# Altium schematic symbol library Amplifier_Operational.SchLib: 326 symbols (part 2 of 4)
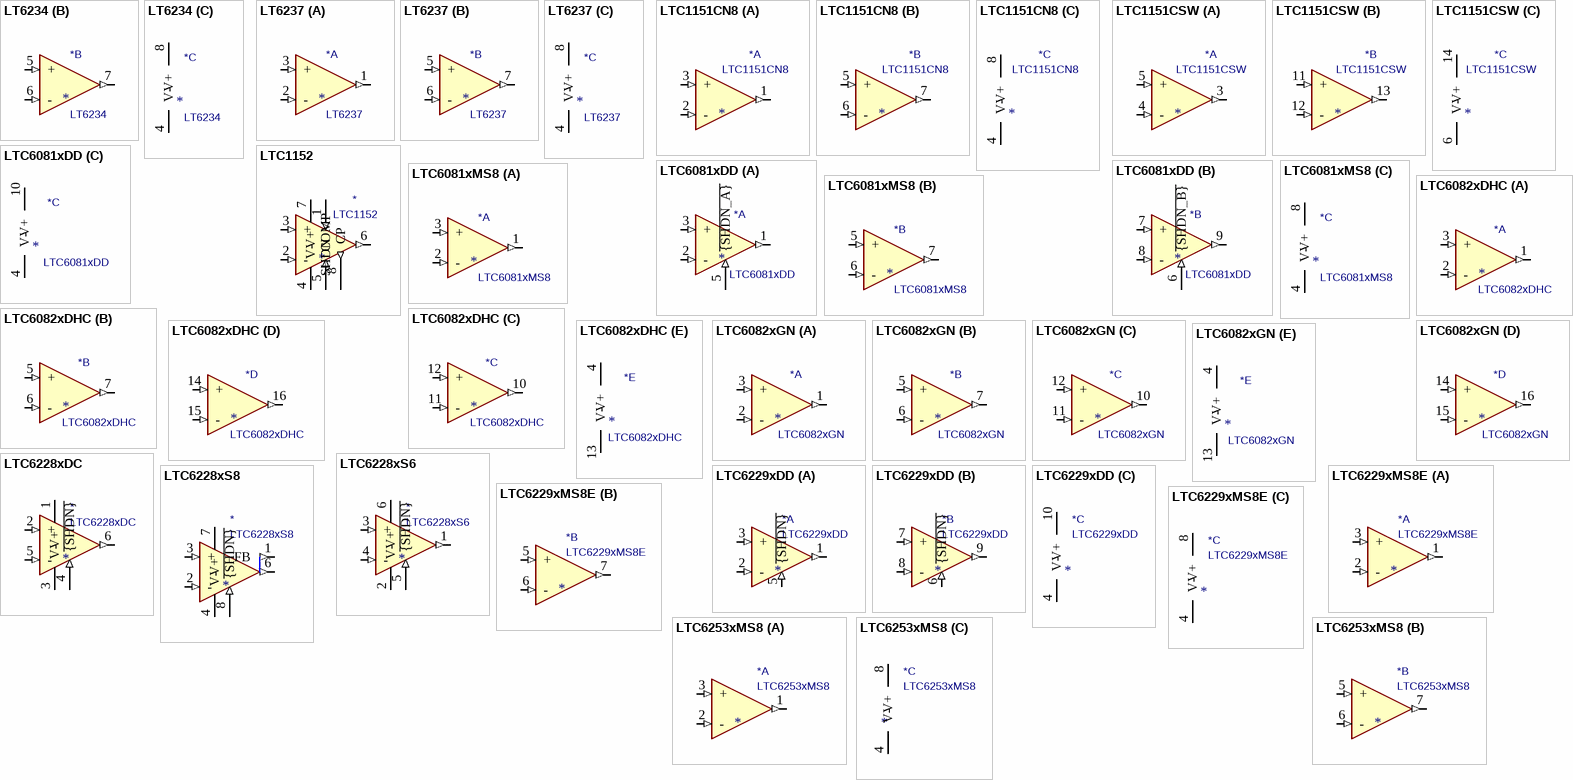
[diagram p19: symbols LT6234 to LTC6253xMS8]

## LTC6082xDHC
designator *  value LTC6082xDHC
ki_keywords: quad opamp; ki_description: Precision Quad CMOS Rail-to-Rail Input/Output Amplifiers, DFN-16; ki_fp_filters: DFN*3x5mm*P0.5mm*; Footprint: Package_DFN_QFN:DFN-16-1EP_3x5mm_P0.5mm_EP1.66x4.4mm; Supplier: https://www.analog.com/media/en/technical-documentation/data-sheets/60812fd.pdf
footprint DFN-16-1EP_3x5mm_P0.5mm_EP1.66x4.4mm
part A pins: 1 (out), 2 - (in), 3 + (in), 8 NC (in) hidden, 9 NC (in) hidden
part B pins: 5 + (in), 6 - (in), 7 (out)
part C pins: 10 (out), 11 - (in), 12 + (in)
part D pins: 14 + (in), 15 - (in), 16 (out)
part E pins: 4 V+ (power), 13 V- (power), 17 V- hidden

## LTC6082xGN
designator *  value LTC6082xGN
ki_keywords: quad opamp; ki_description: Precision Quad CMOS Rail-to-Rail Input/Output Amplifiers, SSOP-16; ki_fp_filters: SSOP*3.9x4.9mm*P0.635mm* SOIC*3.9x9.9mm*P1.27mm* QSOP*3.9x4.9mm*P0.635mm*; Supplier: https://www.analog.com/media/en/technical-documentation/data-sheets/60812fd.pdf
part A pins: 1 (out), 2 - (in), 3 + (in), 8 NC (in) hidden, 9 NC (in) hidden
part B pins: 5 + (in), 6 - (in), 7 (out)
part C pins: 10 (out), 11 - (in), 12 + (in)
part D pins: 14 + (in), 15 - (in), 16 (out)
part E pins: 4 V+ (power), 13 V- (power)

## LTC6228xDC
designator *  value LTC6228xDC
ki_keywords: single opamp; ki_description: Low Distortion Rail-to-Rail Output Op Amp with Shutdown, DFN-6; ki_fp_filters: DFN*1EP*2x2mm*P0.5mm*; Footprint: Package_DFN_QFN:DFN-6-1EP_2x2mm_P0.5mm_EP0.6x1.37mm; Supplier: https://www.analog.com/media/en/technical-documentation/data-sheets/LTC6228-6229.pdf
footprint DFN-6-1EP_2x2mm_P0.5mm_EP0.6x1.37mm
pins: 1 V+ (power), 2 + (in), 3 V- (power), 4 ~{{SHDN}} (in), 5 - (in), 6 (out), 7 V- hidden

## LTC6228xS6
designator *  value LTC6228xS6
ki_keywords: single opamp; ki_description: Low Distortion Rail-to-Rail Output Op Amp with Shutdown, TSOT-23-6; ki_fp_filters: TSOT?23*; Footprint: Package_TO_SOT_SMD:TSOT-23-6; Supplier: https://www.analog.com/media/en/technical-documentation/data-sheets/LTC6228-6229.pdf
footprint TSOT-23-6
pins: 1 (out), 2 V- (power), 3 + (in), 4 - (in), 5 ~{{SHDN}} (in), 6 V+ (power)

## LTC6228xS8
designator *  value LTC6228xS8
ki_keywords: single opamp; ki_description: Low Distortion Rail-to-Rail Output Op Amp with Shutdown, SO-8; ki_fp_filters: SO*3.9x4.9mm*P1.27mm*; Footprint: Package_SO:SO-8_3.9x4.9mm_P1.27mm; Supplier: https://www.analog.com/media/en/technical-documentation/data-sheets/LTC6228-6229.pdf
footprint SO-8_3.9x4.9mm_P1.27mm
pins: 1 FB (out), 2 - (in), 3 + (in), 4 V- (power), 5 V- hidden, 6 (out), 7 V+ (power), 8 ~{{SHDN}} (in)

## LTC6229xDD
designator *  value LTC6229xDD
ki_keywords: dual opamp; ki_description: Low Distortion Rail-to-Rail Output Op Amps with Shutdown, DFN-10; ki_fp_filters: DFN*1EP*3x3mm*P0.5mm*; Footprint: Package_DFN_QFN:DFN-10-1EP_3x3mm_P0.5mm_EP1.65x2.38mm; Supplier: https://www.analog.com/media/en/technical-documentation/data-sheets/LTC6228-6229.pdf
footprint DFN-10-1EP_3x3mm_P0.5mm_EP1.65x2.38mm
part A pins: 1 (out), 2 - (in), 3 + (in), 5 ~{{SHDN}} (in)
part B pins: 6 ~{{SHDN}} (in), 7 + (in), 8 - (in), 9 (out)
part C pins: 4 V- (power), 10 V+ (power), 11 V- hidden

## LTC6229xMS8E
designator *  value LTC6229xMS8E
ki_keywords: dual opamp; ki_description: Low Distortion Rail-to-Rail Output Op Amps with Shutdown, MSOP-8; ki_fp_filters: MSOP*1EP*3x3mm*P0.65mm*; Footprint: Package_SO:MSOP-8-1EP_3x3mm_P0.65mm_EP1.68x1.88mm; Supplier: https://www.analog.com/media/en/technical-documentation/data-sheets/LTC6228-6229.pdf
footprint MSOP-8-1EP_3x3mm_P0.65mm_EP1.68x1.88mm
part A pins: 1 (out), 2 - (in), 3 + (in)
part B pins: 5 + (in), 6 - (in), 7 (out)
part C pins: 4 V- (power), 8 V+ (power), 9 V- hidden

## LTC6253xMS8
designator *  value LTC6253xMS8
ki_keywords: dual opamp low-power; ki_description: 720MHz, 3.5mA Power Efficient, Rail-to-Rail Op Amp, MSOP-8; ki_fp_filters: MSOP*3x3mm*P0.65mm*; Footprint: Package_SO:MSOP-8_3x3mm_P0.65mm; Supplier: https://www.analog.com/media/en/technical-documentation/data-sheets/625234fc.pdf
footprint MSOP-8_3x3mm_P0.65mm
part A pins: 1 (out), 2 - (in), 3 + (in)
part B pins: 5 + (in), 6 - (in), 7 (out)
part C pins: 4 V- (power), 8 V+ (power)

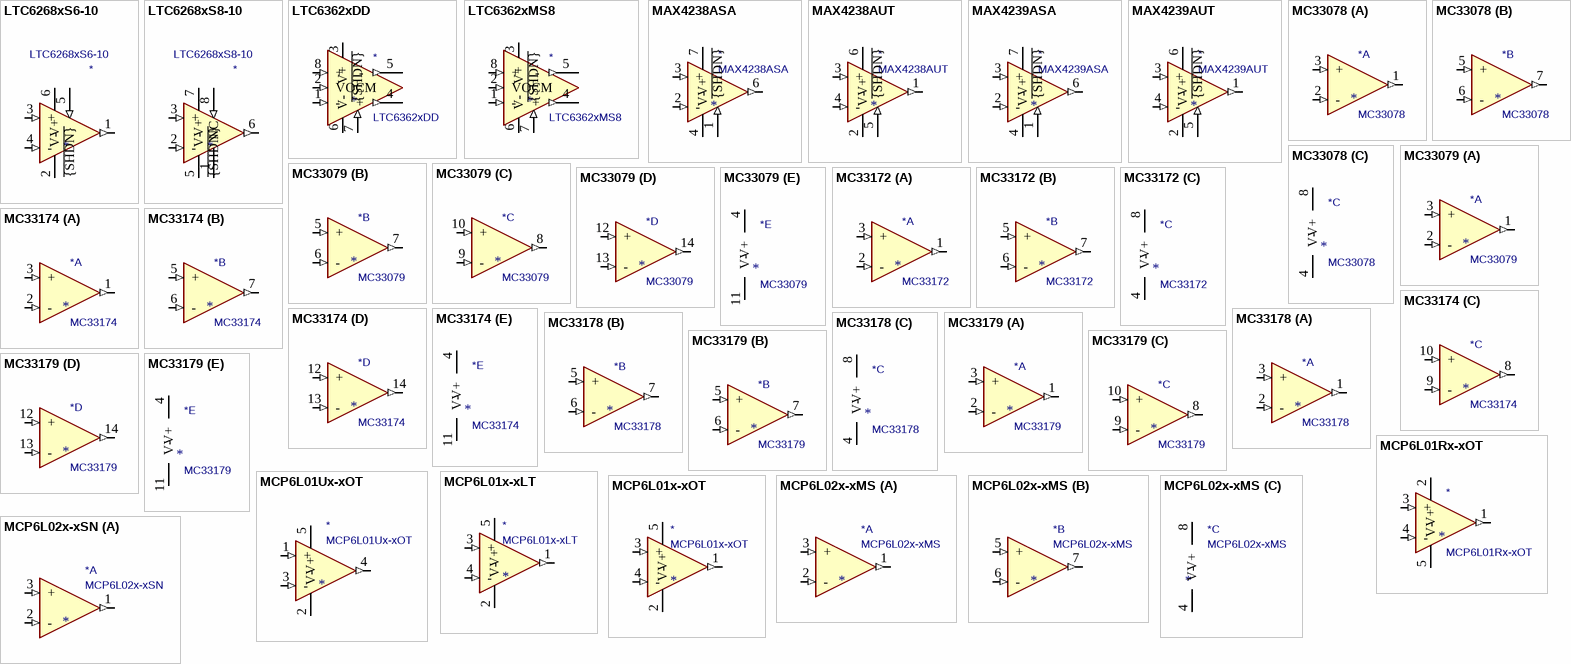
[diagram p6: symbols LTC6268xS6-10 to MCP6L02x-xSN]

## LTC6268xS6-10
designator *  value LTC6268xS6-10
ki_keywords: single opamp transimpedance; ki_description: 4GHz, Ultra-Low Bias Current, FET Input, Op Amp, TSOT-23; ki_fp_filters: TSOT?23*; Footprint: Package_TO_SOT_SMD:TSOT-23-6; Supplier: https://www.analog.com/media/en/technical-documentation/data-sheets/626810f.pdf
footprint TSOT-23-6
pins: 1 (out), 2 V- (power), 3 + (in), 4 - (in), 5 ~{{SHDN}} (in), 6 V+ (power)

## LTC6268xS8-10
designator *  value LTC6268xS8-10
ki_keywords: single opamp transimpedance; ki_description: 4GHz, Ultra-Low Bias Current, FET Input, Op Amp, SOIC-8; ki_fp_filters: SO*3.9x4.9mm*P1.27mm*; Footprint: Package_SO:SO-8_3.9x4.9mm_P1.27mm; Supplier: https://www.analog.com/media/en/technical-documentation/data-sheets/626810f.pdf
footprint SO-8_3.9x4.9mm_P1.27mm
pins: 1 NC, 2 - (in), 3 + (in), 4 NC hidden, 5 V- (power), 6 (out), 7 V+ (power), 8 ~{{SHDN}} (in)

## LTC6362xDD
designator *  value LTC6362xDD
ki_keywords: single differential opamp; ki_description: Precision, Low Power, Rail-to-Rail Input/Output, Differential Op Amp/SAR ADC Driver, DFN-8; ki_fp_filters: DFN*1EP*3x3mm*P0.5mm*; Footprint: Package_DFN_QFN:DFN-8-1EP_3x3mm_P0.5mm_EP1.66x2.38mm; Supplier: https://www.analog.com/media/en/technical-documentation/data-sheets/6362fa.pdf
footprint DFN-8-1EP_3x3mm_P0.5mm_EP1.66x2.38mm
pins: 1 - (in), 2 VOCM (in), 3 V+ (power), 4 + (out), 5 - (out), 6 V- (power), 7 ~{{SHDN}} (in), 8 + (in), 9 V- hidden

## LTC6362xMS8
designator *  value LTC6362xMS8
ki_keywords: single differential opamp; ki_description: Precision, Low Power, Rail-to-Rail Input/Output, Differential Op Amp/SAR ADC Driver, DFN-8; ki_fp_filters: MSOP*3x3mm*P0.65mm*; Footprint: Package_SO:MSOP-8_3x3mm_P0.65mm; Supplier: https://www.analog.com/media/en/technical-documentation/data-sheets/6362fa.pdf
footprint MSOP-8_3x3mm_P0.65mm
pins: 1 - (in), 2 VOCM (in), 3 V+ (power), 4 + (out), 5 - (out), 6 V- (power), 7 ~{{SHDN}} (in), 8 + (in)

## MAX4238ASA
designator *  value MAX4238ASA
ki_keywords: single opamp; ki_description: Ultra-Low Offset/Drift, Low-Noise, Precision Amplifiers, SOIC-8; ki_fp_filters: SOIC*3.9x4.9mm*P1.27mm*; Footprint: Package_SO:SOIC-8_3.9x4.9mm_P1.27mm; Supplier: http://datasheets.maximintegrated.com/en/ds/MAX4238-MAX4239.pdf
footprint SOIC-8_3.9x4.9mm_P1.27mm
pins: 1 ~{{SHDN}} (in), 2 - (in), 3 + (in), 4 V- (power), 5 NC (in) hidden, 6 (out), 7 V+ (power), 8 NC (in) hidden

## MAX4238AUT
designator *  value MAX4238AUT
ki_keywords: single opamp; ki_description: Ultra-Low Offset/Drift, Low-Noise, Precision Amplifiers, SOT-23-6; ki_fp_filters: SOT?23*; Footprint: Package_TO_SOT_SMD:SOT-23-6; Supplier: http://datasheets.maximintegrated.com/en/ds/MAX4238-MAX4239.pdf
footprint SOT-23-6
pins: 1 (out), 2 V- (power), 3 + (in), 4 - (in), 5 ~{{SHDN}} (in), 6 V+ (power)

## MAX4239ASA
designator *  value MAX4239ASA
ki_keywords: single opamp; ki_description: Ultra-Low Offset/Drift, Low-Noise, Precision Amplifiers, SOIC-8; ki_fp_filters: SOIC*3.9x4.9mm*P1.27mm*; Footprint: Package_SO:SOIC-8_3.9x4.9mm_P1.27mm; Supplier: http://datasheets.maximintegrated.com/en/ds/MAX4238-MAX4239.pdf
footprint SOIC-8_3.9x4.9mm_P1.27mm
pins: 1 ~{{SHDN}} (in), 2 - (in), 3 + (in), 4 V- (power), 5 NC (in) hidden, 6 (out), 7 V+ (power), 8 NC (in) hidden

## MAX4239AUT
designator *  value MAX4239AUT
ki_keywords: single opamp; ki_description: Ultra-Low Offset/Drift, Low-Noise, Precision Amplifiers, SOT-23-6; ki_fp_filters: SOT?23*; Footprint: Package_TO_SOT_SMD:SOT-23-6; Supplier: http://datasheets.maximintegrated.com/en/ds/MAX4238-MAX4239.pdf
footprint SOT-23-6
pins: 1 (out), 2 V- (power), 3 + (in), 4 - (in), 5 ~{{SHDN}} (in), 6 V+ (power)

## MC33078
designator *  value MC33078
ki_keywords: dual opamp; ki_description: Low Noise, Dual Operational Amplifiers, DIP-8/SOIC-8/SSOP-8; ki_fp_filters: SOIC*3.9x4.9mm*P1.27mm* DIP*W7.62mm* TO*99* OnSemi*Micro8* TSSOP*3x3mm*P0.65mm* TSSOP*4.4x3mm*P0.65mm* MSOP*3x3mm*P0.65mm* SSOP*3.9x4.9mm*P0.635mm* LFCSP*2x2mm*P0.5mm* *SIP* SOIC*5.3x6.2mm*P1.27mm*; Supplier: https://www.onsemi.com/pub/Collateral/MC33078-D.PDF
part A pins: 1 (out), 2 - (in), 3 + (in)
part B pins: 5 + (in), 6 - (in), 7 (out)
part C pins: 4 V- (power), 8 V+ (power)

## MC33079
designator *  value MC33079
ki_keywords: quad opamp; ki_description: Low Noise, Quad Operational Amplifiers, DIP-14/SOIC-14; ki_fp_filters: SOIC*3.9x8.7mm*P1.27mm* DIP*W7.62mm* TSSOP*4.4x5mm*P0.65mm* SSOP*5.3x6.2mm*P0.65mm* MSOP*3x3mm*P0.5mm*; Supplier: https://www.onsemi.com/pub/Collateral/MC33078-D.PDF
part A pins: 1 (out), 2 - (in), 3 + (in)
part B pins: 5 + (in), 6 - (in), 7 (out)
part C pins: 8 (out), 9 - (in), 10 + (in)
part D pins: 12 + (in), 13 - (in), 14 (out)
part E pins: 4 V+ (power), 11 V- (power)

## MC33172
designator *  value MC33172
ki_keywords: dual opamp; ki_description: Dual Single Supply 3.0V to 44V, Low Power Operational Amplifiers, DIP-8/SOIC-8; ki_fp_filters: SOIC*3.9x4.9mm*P1.27mm* DIP*W7.62mm* TO*99* OnSemi*Micro8* TSSOP*3x3mm*P0.65mm* TSSOP*4.4x3mm*P0.65mm* MSOP*3x3mm*P0.65mm* SSOP*3.9x4.9mm*P0.635mm* LFCSP*2x2mm*P0.5mm* *SIP* SOIC*5.3x6.2mm*P1.27mm*; Supplier: http://www.onsemi.com/pub/Collateral/MC33171-D.PDF
part A pins: 1 (out), 2 - (in), 3 + (in)
part B pins: 5 + (in), 6 - (in), 7 (out)
part C pins: 4 V- (power), 8 V+ (power)

## MC33174
designator *  value MC33174
ki_keywords: quad opamp; ki_description: Quad Single Supply 3.0V to 44V, Low Power Operational Amplifiers, DIP-14/SOIC-14/TSSOP-14; ki_fp_filters: SOIC*3.9x8.7mm*P1.27mm* DIP*W7.62mm* TSSOP*4.4x5mm*P0.65mm* SSOP*5.3x6.2mm*P0.65mm* MSOP*3x3mm*P0.5mm*; Supplier: http://www.onsemi.com/pub/Collateral/MC33171-D.PDF
part A pins: 1 (out), 2 - (in), 3 + (in)
part B pins: 5 + (in), 6 - (in), 7 (out)
part C pins: 8 (out), 9 - (in), 10 + (in)
part D pins: 12 + (in), 13 - (in), 14 (out)
part E pins: 4 V+ (power), 11 V- (power)

## MC33178
designator *  value MC33178
ki_keywords: dual opamp; ki_description: Dual Low Power, Low Noise Operational Amplifiers, DIP-8/SOIC-8/SSOP-8; ki_fp_filters: SOIC*3.9x4.9mm*P1.27mm* DIP*W7.62mm* TO*99* OnSemi*Micro8* TSSOP*3x3mm*P0.65mm* TSSOP*4.4x3mm*P0.65mm* MSOP*3x3mm*P0.65mm* SSOP*3.9x4.9mm*P0.635mm* LFCSP*2x2mm*P0.5mm* *SIP* SOIC*5.3x6.2mm*P1.27mm*; Supplier: https://www.onsemi.com/pub/Collateral/MC33178-D.PDF
part A pins: 1 (out), 2 - (in), 3 + (in)
part B pins: 5 + (in), 6 - (in), 7 (out)
part C pins: 4 V- (power), 8 V+ (power)

## MC33179
designator *  value MC33179
ki_keywords: quad opamp; ki_description: Quad Low Power, Low Noise Operational Amplifiers, DIP-14/SOIC-14/SSOP-14; ki_fp_filters: SOIC*3.9x8.7mm*P1.27mm* DIP*W7.62mm* TSSOP*4.4x5mm*P0.65mm* SSOP*5.3x6.2mm*P0.65mm* MSOP*3x3mm*P0.5mm*; Supplier: https://www.onsemi.com/pub/Collateral/MC33178-D.PDF
part A pins: 1 (out), 2 - (in), 3 + (in)
part B pins: 5 + (in), 6 - (in), 7 (out)
part C pins: 8 (out), 9 - (in), 10 + (in)
part D pins: 12 + (in), 13 - (in), 14 (out)
part E pins: 4 V+ (power), 11 V- (power)

## MCP6L01Rx-xOT
designator *  value MCP6L01Rx-xOT
ki_keywords: opamp vfa r2r rtr; ki_description: Single, 1 MHz, 85µA, Rail-to-Rail input and output, SOT-23-5; ki_fp_filters: SOT?23*; Footprint: Package_TO_SOT_SMD:SOT-23-5; Supplier: http://ww1.microchip.com/downloads/en/devicedoc/22140b.pdf
footprint SOT-23-5
pins: 1 (out), 2 V+ (power), 3 + (in), 4 - (in), 5 V- (power)

## MCP6L01Ux-xOT
designator *  value MCP6L01Ux-xOT
ki_keywords: opamp vfa r2r rtr; ki_description: Single, 1 MHz, 85µA, Rail-to-Rail input and output, SOT-23-5; ki_fp_filters: SOT?23*; Footprint: Package_TO_SOT_SMD:SOT-23-5; Supplier: http://ww1.microchip.com/downloads/en/devicedoc/22140b.pdf
footprint SOT-23-5
pins: 1 + (in), 2 V- (power), 3 - (in), 4 (out), 5 V+ (power)

## MCP6L01x-xLT
designator *  value MCP6L01x-xLT
ki_keywords: opamp vfa r2r rtr; ki_description: Single, 1 MHz, Rail-to-Rail input and output, SC-70-5; ki_fp_filters: *SC?70*; Footprint: Package_TO_SOT_SMD:SOT-353_SC-70-5; Supplier: http://ww1.microchip.com/downloads/en/devicedoc/22140b.pdf
footprint SOT-353_SC-70-5
pins: 1 (out), 2 V- (power), 3 + (in), 4 - (in), 5 V+ (power)

## MCP6L01x-xOT
designator *  value MCP6L01x-xOT
ki_keywords: opamp vfa rtr r2r; ki_description: Single, 1 MHz, 85µA, Rail-to-Rail input and output, SOT-23-5; ki_fp_filters: SOT?23*; Footprint: Package_TO_SOT_SMD:SOT-23-5; Supplier: http://ww1.microchip.com/downloads/en/devicedoc/22140b.pdf
footprint SOT-23-5
pins: 1 (out), 2 V- (power), 3 + (in), 4 - (in), 5 V+ (power)

## MCP6L02x-xMS
designator *  value MCP6L02x-xMS
ki_keywords: opamp vfa r2r rtr; ki_description: Dual, 1 MHz, 85µA, Rail-to-Rail input and output, MSOP-8; ki_fp_filters: MSOP*3x3mm*P0.65mm*; Footprint: Package_SO:MSOP-8_3x3mm_P0.65mm; Supplier: http://ww1.microchip.com/downloads/en/devicedoc/22140b.pdf
footprint MSOP-8_3x3mm_P0.65mm
part A pins: 1 (out), 2 - (in), 3 + (in)
part B pins: 5 + (in), 6 - (in), 7 (out)
part C pins: 4 V- (power), 8 V+ (power)

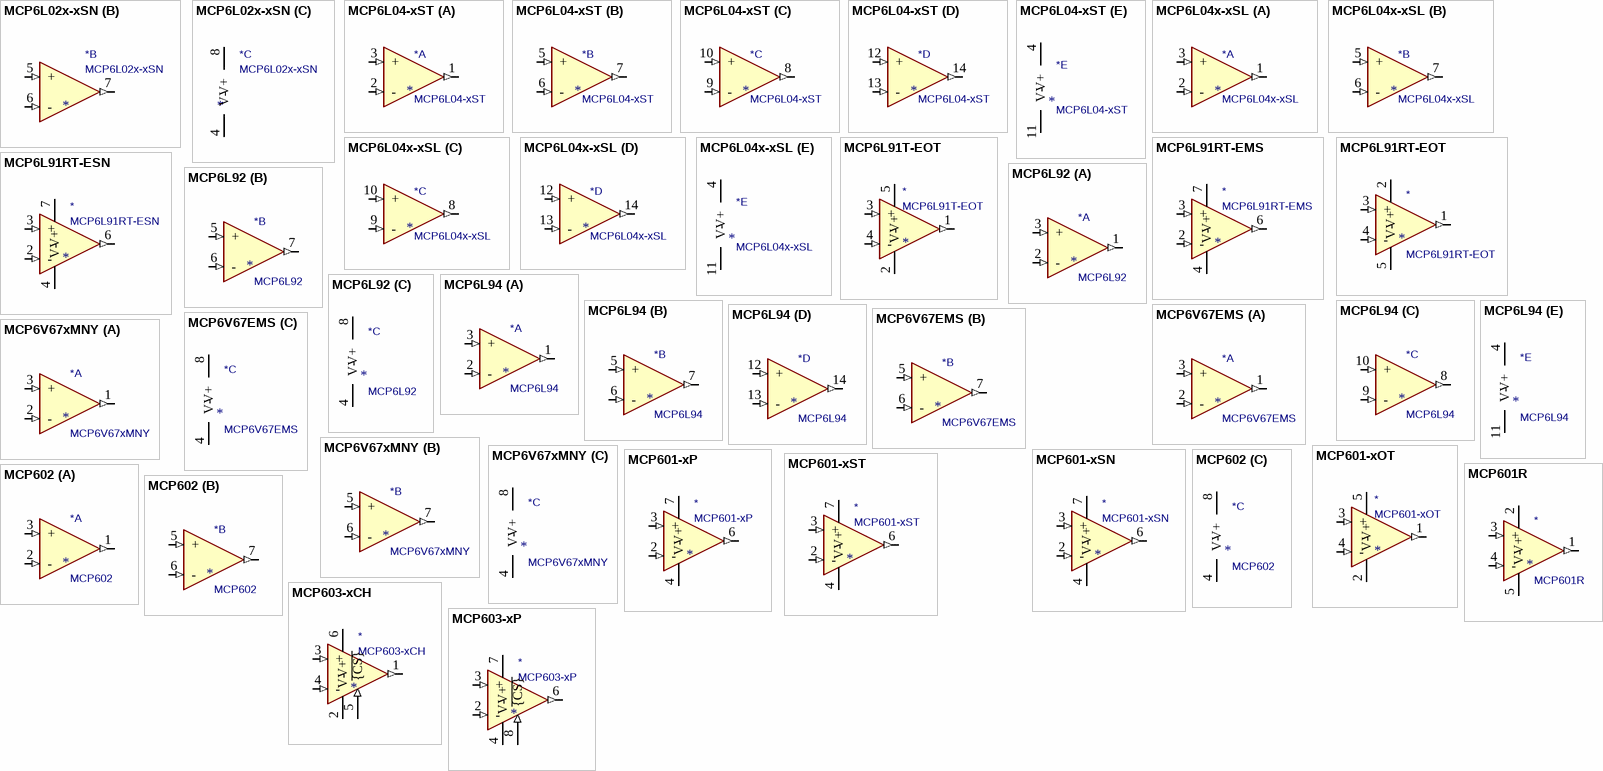
[diagram p7: symbols MCP6L02x-xSN to MCP603-xP]

## MCP6L02x-xSN
designator *  value MCP6L02x-xSN
ki_keywords: opamp vfa r2r rtr; ki_description: Dual, 1 MHz, 85µA, Rail-to-Rail input and output SOIC-8; ki_fp_filters: SOIC*3.9x4.9mm*P1.27mm*; Footprint: Package_SO:SOIC-8_3.9x4.9mm_P1.27mm; Supplier: http://ww1.microchip.com/downloads/en/devicedoc/22140b.pdf
footprint SOIC-8_3.9x4.9mm_P1.27mm
part A pins: 1 (out), 2 - (in), 3 + (in)
part B pins: 5 + (in), 6 - (in), 7 (out)
part C pins: 4 V- (power), 8 V+ (power)

## MCP6L04-xST
designator *  value MCP6L04-xST
ki_keywords: opamp vfa r2r rtr; ki_description: Quad, 1 MHz, 85µA, Rail-to-Rail input and output, TSSOP-14; ki_fp_filters: TSSOP*4.4x5mm*P0.65mm*; Footprint: Package_SO:TSSOP-14_4.4x5mm_P0.65mm; Supplier: http://ww1.microchip.com/downloads/en/devicedoc/22140b.pdf
footprint TSSOP-14_4.4x5mm_P0.65mm
part A pins: 1 (out), 2 - (in), 3 + (in)
part B pins: 5 + (in), 6 - (in), 7 (out)
part C pins: 8 (out), 9 - (in), 10 + (in)
part D pins: 12 + (in), 13 - (in), 14 (out)
part E pins: 4 V+ (power), 11 V- (power)

## MCP6L04x-xSL
designator *  value MCP6L04x-xSL
ki_keywords: opamp vfa r2r rtr; ki_description: Quad, 1 MHz, 85µA, Rail-to-Rail input and output, SOIC-14; ki_fp_filters: SOIC*3.9x8.7mm*P1.27mm*; Footprint: Package_SO:SOIC-14_3.9x8.7mm_P1.27mm; Supplier: http://ww1.microchip.com/downloads/en/devicedoc/22140b.pdf
footprint SOIC-14_3.9x8.7mm_P1.27mm
part A pins: 1 (out), 2 - (in), 3 + (in)
part B pins: 5 + (in), 6 - (in), 7 (out)
part C pins: 8 (out), 9 - (in), 10 + (in)
part D pins: 12 + (in), 13 - (in), 14 (out)
part E pins: 4 V+ (power), 11 V- (power)

## MCP6L91RT-EMS
designator *  value MCP6L91RT-EMS
ki_keywords: single opamp; ki_description: 10 MHz, 850 µA Op Amps, MSOP-8; ki_fp_filters: MSOP*3x3mm*P0.65mm*; Footprint: Package_SO:MSOP-8_3x3mm_P0.65mm; Supplier: http://ww1.microchip.com/downloads/en/DeviceDoc/22141b.pdf
footprint MSOP-8_3x3mm_P0.65mm
pins: 1 NC (in) hidden, 2 - (in), 3 + (in), 4 V- (power), 5 NC (in) hidden, 6 (out), 7 V+ (power), 8 NC (in) hidden

## MCP6L91RT-EOT
designator *  value MCP6L91RT-EOT
ki_keywords: single opamp; ki_description: 10 MHz, 850 µA Op Amps, SOT-23-5; ki_fp_filters: SOT?23*; Footprint: Package_TO_SOT_SMD:SOT-23-5; Supplier: http://ww1.microchip.com/downloads/en/DeviceDoc/22141b.pdf
footprint SOT-23-5
pins: 1 (out), 2 V+ (power), 3 + (in), 4 - (in), 5 V- (power)

## MCP6L91RT-ESN
designator *  value MCP6L91RT-ESN
ki_keywords: single opamp; ki_description: 10 MHz, 850 µA Op Amps, SOIC-8; ki_fp_filters: SOIC*3.9x4.9mm*P1.27mm*; Footprint: Package_SO:SOIC-8_3.9x4.9mm_P1.27mm; Supplier: http://ww1.microchip.com/downloads/en/DeviceDoc/22141b.pdf
footprint SOIC-8_3.9x4.9mm_P1.27mm
pins: 1 NC (in) hidden, 2 - (in), 3 + (in), 4 V- (power), 5 NC (in) hidden, 6 (out), 7 V+ (power), 8 NC (in) hidden

## MCP6L91T-EOT
designator *  value MCP6L91T-EOT
ki_keywords: single opamp; ki_description: 10 MHz, 850 µA Op Amps, SOT-23-5; ki_fp_filters: SOT?23*; Footprint: Package_TO_SOT_SMD:SOT-23-5; Supplier: http://ww1.microchip.com/downloads/en/DeviceDoc/22141b.pdf
footprint SOT-23-5
pins: 1 (out), 2 V- (power), 3 + (in), 4 - (in), 5 V+ (power)

## MCP6L92
designator *  value MCP6L92
ki_keywords: dual opamp; ki_description: 10 MHz, 850 µA Op Amps, SOIC-8/MSOP-8; ki_fp_filters: SOIC*3.9x4.9mm*P1.27mm* DIP*W7.62mm* TO*99* OnSemi*Micro8* TSSOP*3x3mm*P0.65mm* TSSOP*4.4x3mm*P0.65mm* MSOP*3x3mm*P0.65mm* SSOP*3.9x4.9mm*P0.635mm* LFCSP*2x2mm*P0.5mm* *SIP* SOIC*5.3x6.2mm*P1.27mm*; Supplier: http://ww1.microchip.com/downloads/en/DeviceDoc/22141b.pdf
part A pins: 1 (out), 2 - (in), 3 + (in)
part B pins: 5 + (in), 6 - (in), 7 (out)
part C pins: 4 V- (power), 8 V+ (power)

## MCP6L94
designator *  value MCP6L94
ki_keywords: quad opamp; ki_description: 10 MHz, 850 µA Op Amps, SOIC-14/TSSOP-14; ki_fp_filters: SOIC*3.9x8.7mm*P1.27mm* DIP*W7.62mm* TSSOP*4.4x5mm*P0.65mm* SSOP*5.3x6.2mm*P0.65mm* MSOP*3x3mm*P0.5mm*; Supplier: http://ww1.microchip.com/downloads/en/DeviceDoc/22141b.pdf
part A pins: 1 (out), 2 - (in), 3 + (in)
part B pins: 5 + (in), 6 - (in), 7 (out)
part C pins: 8 (out), 9 - (in), 10 + (in)
part D pins: 12 + (in), 13 - (in), 14 (out)
part E pins: 4 V+ (power), 11 V- (power)

## MCP6V67EMS
designator *  value MCP6V67EMS
ki_keywords: dual opamp zero drift; ki_description: Dual Operational Amplifiers, Zero-Drift, 80 kHz Bandwidth, 1.8V to 5.5V, Rail-to-Rail, MSOP-8; ki_fp_filters: SOIC*3.9x4.9mm*P1.27mm* DIP*W7.62mm* TO*99* OnSemi*Micro8* TSSOP*3x3mm*P0.65mm* TSSOP*4.4x3mm*P0.65mm* MSOP*3x3mm*P0.65mm* SSOP*3.9x4.9mm*P0.635mm* LFCSP*2x2mm*P0.5mm* *SIP* SOIC*5.3x6.2mm*P1.27mm*; Supplier: http://ww1.microchip.com/downloads/en/DeviceDoc/MCP6V66-Family-Data-Sheet-DS20006266A.pdf
part A pins: 1 (out), 2 - (in), 3 + (in)
part B pins: 5 + (in), 6 - (in), 7 (out)
part C pins: 4 V- (power), 8 V+ (power)

## MCP6V67xMNY
designator *  value MCP6V67xMNY
ki_keywords: dual opamp zero drift; ki_description: Dual Operational Amplifiers, Zero-Drift, 80 kHz Bandwidth, 1.8V to 5.5V, Rail-to-Rail, TDFN-8; ki_fp_filters: TDFN*1EP*3x2mm*P0.5mm*; Footprint: Package_DFN_QFN:TDFN-8-1EP_3x2mm_P0.5mm_EP1.3x1.4mm; Supplier: http://ww1.microchip.com/downloads/en/DeviceDoc/MCP6V66-Family-Data-Sheet-DS20006266A.pdf
footprint TDFN-8-1EP_3x2mm_P0.5mm_EP1.3x1.4mm
part A pins: 1 (out), 2 - (in), 3 + (in)
part B pins: 5 + (in), 6 - (in), 7 (out)
part C pins: 4 V- (power), 8 V+ (power), 9 V- hidden

## MCP601-xOT
designator *  value MCP601-xOT
ki_keywords: single opamp; ki_description: Single 2.7V to 6.0V Single Supply CMOS Op Amps, SOT-23-5; ki_fp_filters: SOT?23*; Footprint: Package_TO_SOT_SMD:SOT-23-5; Supplier: http://ww1.microchip.com/downloads/en/DeviceDoc/21314g.pdf
footprint SOT-23-5
pins: 1 (out), 2 V- (power), 3 + (in), 4 - (in), 5 V+ (power)

## MCP601-xP
designator *  value MCP601-xP
ki_keywords: single opamp; ki_description: Single 2.7V to 6.0V Single Supply CMOS Op Amps, DIP-8; ki_fp_filters: DIP*W7.62mm*; Footprint: Package_DIP:DIP-8_W7.62mm; Supplier: http://ww1.microchip.com/downloads/en/DeviceDoc/21314g.pdf
footprint DIP-8_W7.62mm
pins: 1 NC (in) hidden, 2 - (in), 3 + (in), 4 V- (power), 5 NC (in) hidden, 6 (out), 7 V+ (power), 8 NC (in) hidden

## MCP601-xSN
designator *  value MCP601-xSN
ki_keywords: single opamp; ki_description: Single 2.7V to 6.0V Single Supply CMOS Op Amps, SOIC-8; ki_fp_filters: SOIC*3.9x4.9mm*P1.27mm*; Footprint: Package_SO:SOIC-8_3.9x4.9mm_P1.27mm; Supplier: http://ww1.microchip.com/downloads/en/DeviceDoc/21314g.pdf
footprint SOIC-8_3.9x4.9mm_P1.27mm
pins: 1 NC (in) hidden, 2 - (in), 3 + (in), 4 V- (power), 5 NC (in) hidden, 6 (out), 7 V+ (power), 8 NC (in) hidden

## MCP601-xST
designator *  value MCP601-xST
ki_keywords: single opamp; ki_description: Single 2.7V to 6.0V Single Supply CMOS Op Amps, TSSOP-8; ki_fp_filters: TSSOP*4.4x3mm*P0.65mm*; Footprint: Package_SO:TSSOP-8_4.4x3mm_P0.65mm; Supplier: http://ww1.microchip.com/downloads/en/DeviceDoc/21314g.pdf
footprint TSSOP-8_4.4x3mm_P0.65mm
pins: 1 NC (in) hidden, 2 - (in), 3 + (in), 4 V- (power), 5 NC (in) hidden, 6 (out), 7 V+ (power), 8 NC (in) hidden

## MCP601R
designator *  value MCP601R
ki_keywords: single opamp; ki_description: Single 2.7V to 6.0V Single Supply CMOS Op Amps, SOT-23-5; ki_fp_filters: SOT?23*; Footprint: Package_TO_SOT_SMD:SOT-23-5; Supplier: http://ww1.microchip.com/downloads/en/DeviceDoc/21314g.pdf
footprint SOT-23-5
pins: 1 (out), 2 V+ (power), 3 + (in), 4 - (in), 5 V- (power)

## MCP602
designator *  value MCP602
ki_keywords: dual opamp; ki_description: Dual 2.7V to 6.0V Single Supply CMOS Op Amps, DIP-8/SOIC-8/TSSOP-8; ki_fp_filters: SOIC*3.9x4.9mm*P1.27mm* DIP*W7.62mm* TO*99* OnSemi*Micro8* TSSOP*3x3mm*P0.65mm* TSSOP*4.4x3mm*P0.65mm* MSOP*3x3mm*P0.65mm* SSOP*3.9x4.9mm*P0.635mm* LFCSP*2x2mm*P0.5mm* *SIP* SOIC*5.3x6.2mm*P1.27mm*; Supplier: http://ww1.microchip.com/downloads/en/DeviceDoc/21314g.pdf
part A pins: 1 (out), 2 - (in), 3 + (in)
part B pins: 5 + (in), 6 - (in), 7 (out)
part C pins: 4 V- (power), 8 V+ (power)

## MCP603-xCH
designator *  value MCP603-xCH
ki_keywords: single opamp; ki_description: Single 2.7V to 6.0V Single Supply CMOS Op Amps, with Chip Select, SOT-23-6; ki_fp_filters: SOT?23*; Footprint: Package_TO_SOT_SMD:SOT-23-6; Supplier: http://ww1.microchip.com/downloads/en/DeviceDoc/21314g.pdf
footprint SOT-23-6
pins: 1 (out), 2 V- (power), 3 + (in), 4 - (in), 5 ~{{CS}} (in), 6 V+ (power)

## MCP603-xP
designator *  value MCP603-xP
ki_keywords: single opamp; ki_description: Single 2.7V to 6.0V Single Supply CMOS Op Amps, with Chip Select, DIP-8; ki_fp_filters: DIP*W7.62mm* SOIC*3.9x4.9mm*P1.27mm* TSSOP*4.4x3mm*P0.65mm*; Supplier: http://ww1.microchip.com/downloads/en/DeviceDoc/21314g.pdf
pins: 1 NC (in) hidden, 2 - (in), 3 + (in), 4 V- (power), 5 NC (in) hidden, 6 (out), 7 V+ (power), 8 ~{{CS}} (in)

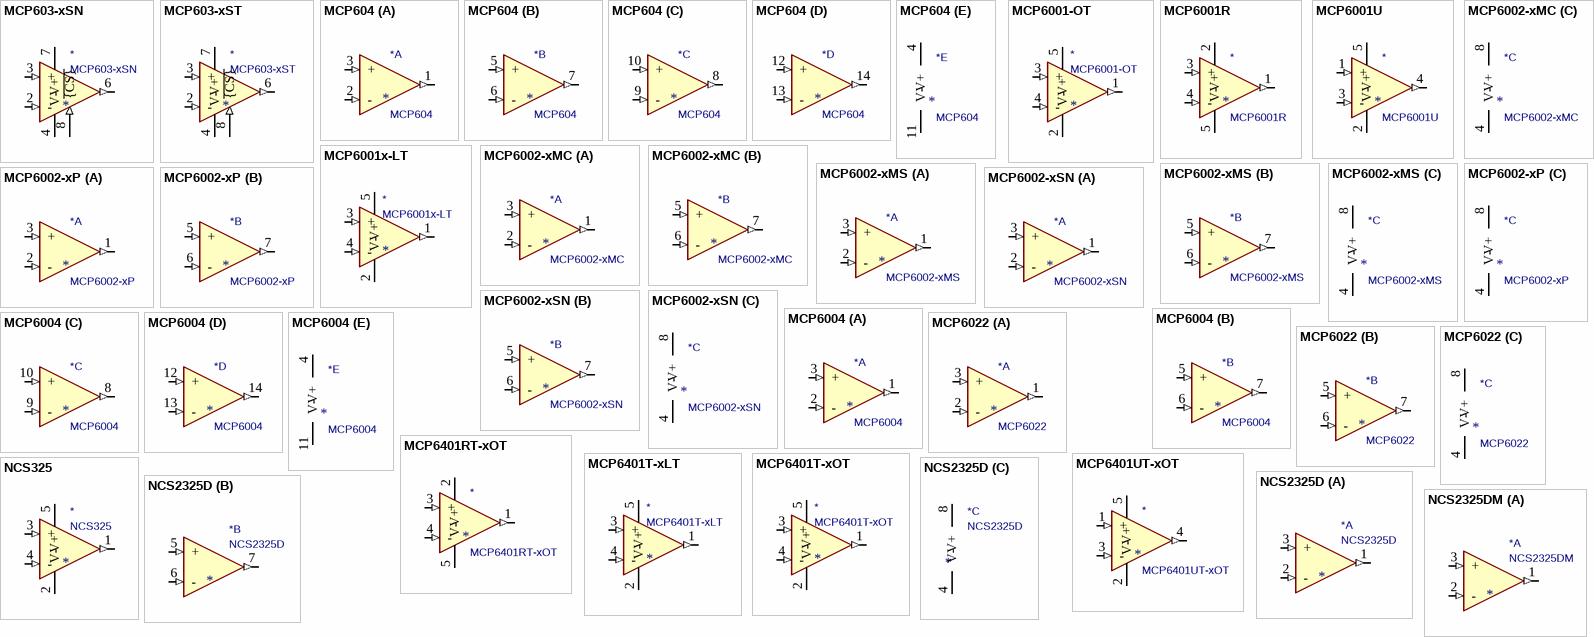
[diagram p8: symbols MCP603-xSN to NCS2325DM]

## MCP603-xSN
designator *  value MCP603-xSN
ki_keywords: single opamp; ki_description: Single 2.7V to 6.0V Single Supply CMOS Op Amps, with Chip Select, SOIC-8; ki_fp_filters: DIP*W7.62mm* SOIC*3.9x4.9mm*P1.27mm* TSSOP*4.4x3mm*P0.65mm*; Supplier: http://ww1.microchip.com/downloads/en/DeviceDoc/21314g.pdf
pins: 1 NC (in) hidden, 2 - (in), 3 + (in), 4 V- (power), 5 NC (in) hidden, 6 (out), 7 V+ (power), 8 ~{{CS}} (in)

## MCP603-xST
designator *  value MCP603-xST
ki_keywords: single opamp; ki_description: Single 2.7V to 6.0V Single Supply CMOS Op Amps, with Chip Select, TSSOP-8; ki_fp_filters: DIP*W7.62mm* SOIC*3.9x4.9mm*P1.27mm* TSSOP*4.4x3mm*P0.65mm*; Supplier: http://ww1.microchip.com/downloads/en/DeviceDoc/21314g.pdf
pins: 1 NC (in) hidden, 2 - (in), 3 + (in), 4 V- (power), 5 NC (in) hidden, 6 (out), 7 V+ (power), 8 ~{{CS}} (in)

## MCP604
designator *  value MCP604
ki_keywords: quad opamp; ki_description: Quad 2.7V to 6.0V Single Supply CMOS Op Amps, DIP-14/SOIC-14/TSSOP-14; ki_fp_filters: SOIC*3.9x8.7mm*P1.27mm* DIP*W7.62mm* TSSOP*4.4x5mm*P0.65mm* SSOP*5.3x6.2mm*P0.65mm* MSOP*3x3mm*P0.5mm*; Supplier: http://ww1.microchip.com/downloads/en/DeviceDoc/21314g.pdf
part A pins: 1 (out), 2 - (in), 3 + (in)
part B pins: 5 + (in), 6 - (in), 7 (out)
part C pins: 8 (out), 9 - (in), 10 + (in)
part D pins: 12 + (in), 13 - (in), 14 (out)
part E pins: 4 V+ (power), 11 V- (power)

## MCP6001-OT
designator *  value MCP6001-OT
ki_keywords: single opamp; ki_description: 1MHz, Low-Power Op Amp, SOT-23-5; ki_fp_filters: SOT?23*; Footprint: Package_TO_SOT_SMD:SOT-23-5; Supplier: http://ww1.microchip.com/downloads/en/DeviceDoc/21733j.pdf
footprint SOT-23-5
pins: 1 (out), 2 V- (power), 3 + (in), 4 - (in), 5 V+ (power)

## MCP6001R
designator *  value MCP6001R
ki_keywords: single opamp; ki_description: 1MHz, Low-Power Op Amp, SOT-23-5; ki_fp_filters: SOT?23*; Footprint: Package_TO_SOT_SMD:SOT-23-5; Supplier: http://ww1.microchip.com/downloads/en/DeviceDoc/21733j.pdf
footprint SOT-23-5
pins: 1 (out), 2 V+ (power), 3 + (in), 4 - (in), 5 V- (power)

## MCP6001U
designator *  value MCP6001U
ki_keywords: single opamp; ki_description: 1MHz, Low-Power Op Amp, SOT-23-5; ki_fp_filters: SOT?23* *SC*70*; Supplier: http://ww1.microchip.com/downloads/en/DeviceDoc/21733j.pdf
pins: 1 + (in), 2 V- (power), 3 - (in), 4 (out), 5 V+ (power)

## MCP6001x-LT
designator *  value MCP6001x-LT
ki_keywords: single opamp; ki_description: 1 MHz, Low-Power Op Amp, SC-70-5; ki_fp_filters: *SC?70*; Footprint: Package_TO_SOT_SMD:SOT-353_SC-70-5; Supplier: http://ww1.microchip.com/downloads/en/DeviceDoc/21733j.pdf
footprint SOT-353_SC-70-5
pins: 1 (out), 2 V- (power), 3 + (in), 4 - (in), 5 V+ (power)

## MCP6002-xMC
designator *  value MCP6002-xMC
ki_keywords: dual opamp; ki_description: 1MHz, Low-Power Op Amp, DFN-8; ki_fp_filters: DFN*1EP*3x2mm*P0.5mm*; Footprint: Package_DFN_QFN:DFN-8-1EP_3x2mm_P0.5mm_EP1.75x1.45mm; Supplier: http://ww1.microchip.com/downloads/en/DeviceDoc/21733j.pdf
footprint DFN-8-1EP_3x2mm_P0.5mm_EP1.75x1.45mm
part A pins: 1 (out), 2 - (in), 3 + (in)
part B pins: 5 + (in), 6 - (in), 7 (out)
part C pins: 4 V- (power), 8 V+ (power), 9 V- hidden

## MCP6002-xMS
designator *  value MCP6002-xMS
ki_keywords: dual opamp; ki_description: 1MHz, Low-Power Op Amp, MSOP-8; ki_fp_filters: SOIC*3.9x4.9mm*P1.27mm* DIP*W7.62mm* TO*99* OnSemi*Micro8* TSSOP*3x3mm*P0.65mm* TSSOP*4.4x3mm*P0.65mm* MSOP*3x3mm*P0.65mm* SSOP*3.9x4.9mm*P0.635mm* LFCSP*2x2mm*P0.5mm* *SIP* SOIC*5.3x6.2mm*P1.27mm*; Supplier: http://ww1.microchip.com/downloads/en/DeviceDoc/21733j.pdf
part A pins: 1 (out), 2 - (in), 3 + (in)
part B pins: 5 + (in), 6 - (in), 7 (out)
part C pins: 4 V- (power), 8 V+ (power)

## MCP6002-xP
designator *  value MCP6002-xP
ki_keywords: dual opamp; ki_description: 1MHz, Low-Power Op Amp, DIP-8; ki_fp_filters: SOIC*3.9x4.9mm*P1.27mm* DIP*W7.62mm* TO*99* OnSemi*Micro8* TSSOP*3x3mm*P0.65mm* TSSOP*4.4x3mm*P0.65mm* MSOP*3x3mm*P0.65mm* SSOP*3.9x4.9mm*P0.635mm* LFCSP*2x2mm*P0.5mm* *SIP* SOIC*5.3x6.2mm*P1.27mm*; Supplier: http://ww1.microchip.com/downloads/en/DeviceDoc/21733j.pdf
part A pins: 1 (out), 2 - (in), 3 + (in)
part B pins: 5 + (in), 6 - (in), 7 (out)
part C pins: 4 V- (power), 8 V+ (power)

## MCP6002-xSN
designator *  value MCP6002-xSN
ki_keywords: dual opamp; ki_description: 1MHz, Low-Power Op Amp, SOIC-8; ki_fp_filters: SOIC*3.9x4.9mm*P1.27mm* DIP*W7.62mm* TO*99* OnSemi*Micro8* TSSOP*3x3mm*P0.65mm* TSSOP*4.4x3mm*P0.65mm* MSOP*3x3mm*P0.65mm* SSOP*3.9x4.9mm*P0.635mm* LFCSP*2x2mm*P0.5mm* *SIP* SOIC*5.3x6.2mm*P1.27mm*; Supplier: http://ww1.microchip.com/downloads/en/DeviceDoc/21733j.pdf
part A pins: 1 (out), 2 - (in), 3 + (in)
part B pins: 5 + (in), 6 - (in), 7 (out)
part C pins: 4 V- (power), 8 V+ (power)

## MCP6004
designator *  value MCP6004
ki_keywords: quad opamp; ki_description: 1MHz, Low-Power Op Amp, DIP-14/SOIC-14/TSSOP-14; ki_fp_filters: SOIC*3.9x8.7mm*P1.27mm* DIP*W7.62mm* TSSOP*4.4x5mm*P0.65mm* SSOP*5.3x6.2mm*P0.65mm* MSOP*3x3mm*P0.5mm*; Supplier: http://ww1.microchip.com/downloads/en/DeviceDoc/21733j.pdf
part A pins: 1 (out), 2 - (in), 3 + (in)
part B pins: 5 + (in), 6 - (in), 7 (out)
part C pins: 8 (out), 9 - (in), 10 + (in)
part D pins: 12 + (in), 13 - (in), 14 (out)
part E pins: 4 V+ (power), 11 V- (power)

## MCP6022
designator *  value MCP6022
ki_keywords: dual opamp rail-to-rail; ki_description: Dual Operational Amplifiers, Rail-to-Rail Input/Output, DIP-8/SOIC-8/TSSOP-8; ki_fp_filters: SOIC*3.9x4.9mm*P1.27mm* DIP*W7.62mm* TO*99* OnSemi*Micro8* TSSOP*3x3mm*P0.65mm* TSSOP*4.4x3mm*P0.65mm* MSOP*3x3mm*P0.65mm* SSOP*3.9x4.9mm*P0.635mm* LFCSP*2x2mm*P0.5mm* *SIP* SOIC*5.3x6.2mm*P1.27mm*; Supplier: http://ww1.microchip.com/downloads/en/devicedoc/20001685e.pdf
part A pins: 1 (out), 2 - (in), 3 + (in)
part B pins: 5 + (in), 6 - (in), 7 (out)
part C pins: 4 V- (power), 8 V+ (power)

## MCP6401RT-xOT
designator *  value MCP6401RT-xOT
ki_keywords: single opamp; ki_description: 1 MHz, 45 µA Op Amps, SOT-23-5; ki_fp_filters: SOT?23*; Footprint: Package_TO_SOT_SMD:SOT-23-5; Supplier: http://ww1.microchip.com/downloads/en/devicedoc/22229d.pdf
footprint SOT-23-5
pins: 1 (out), 2 V+ (power), 3 + (in), 4 - (in), 5 V- (power)

## MCP6401T-xLT
designator *  value MCP6401T-xLT
ki_keywords: single opamp; ki_description: 1 MHz, 45 µA Op Amps, SC-70-5; ki_fp_filters: *SC?70*; Footprint: Package_TO_SOT_SMD:SOT-353_SC-70-5; Supplier: http://ww1.microchip.com/downloads/en/devicedoc/22229d.pdf
footprint SOT-353_SC-70-5
pins: 1 (out), 2 V- (power), 3 + (in), 4 - (in), 5 V+ (power)

## MCP6401T-xOT
designator *  value MCP6401T-xOT
ki_keywords: single opamp; ki_description: 1 MHz, 45 µA Op Amps, SOT-23-5; ki_fp_filters: SOT?23*; Footprint: Package_TO_SOT_SMD:SOT-23-5; Supplier: http://ww1.microchip.com/downloads/en/devicedoc/22229d.pdf
footprint SOT-23-5
pins: 1 (out), 2 V- (power), 3 + (in), 4 - (in), 5 V+ (power)

## MCP6401UT-xOT
designator *  value MCP6401UT-xOT
ki_keywords: single opamp; ki_description: 1 MHz, 45 µA Op Amps, SOT-23-5; ki_fp_filters: SOT?23* *SC*70*; Supplier: http://ww1.microchip.com/downloads/en/devicedoc/22229d.pdf
pins: 1 + (in), 2 V- (power), 3 - (in), 4 (out), 5 V+ (power)

## NCS325
designator *  value NCS325
ki_keywords: single opamp low-power; ki_description: Single operational amplifier, 50uV Offset, 0.25uV/C, 35uA Zero-Drift, SOT-23-5; ki_fp_filters: SOT?23*; Footprint: Package_TO_SOT_SMD:SOT-23-5; Supplier: http://www.onsemi.com/pub/Collateral/NCS325-D.PDF
footprint SOT-23-5
pins: 1 (out), 2 V- (power), 3 + (in), 4 - (in), 5 V+ (power)

## NCS2325D
designator *  value NCS2325D
ki_keywords: dual opamp low-power; ki_description: Dual operational amplifier, 50uV Offset, 0.25uV/C, 35uA Zero-Drift, SOIC-8; ki_fp_filters: SOIC*3.9x4.9mm*P1.27mm*; Footprint: Package_SO:SOIC-8_3.9x4.9mm_P1.27mm; Supplier: http://www.onsemi.com/PowerSolutions/document/NCS325-D.PDF
footprint SOIC-8_3.9x4.9mm_P1.27mm
part A pins: 1 (out), 2 - (in), 3 + (in)
part B pins: 5 + (in), 6 - (in), 7 (out)
part C pins: 4 V- (power), 8 V+ (power)

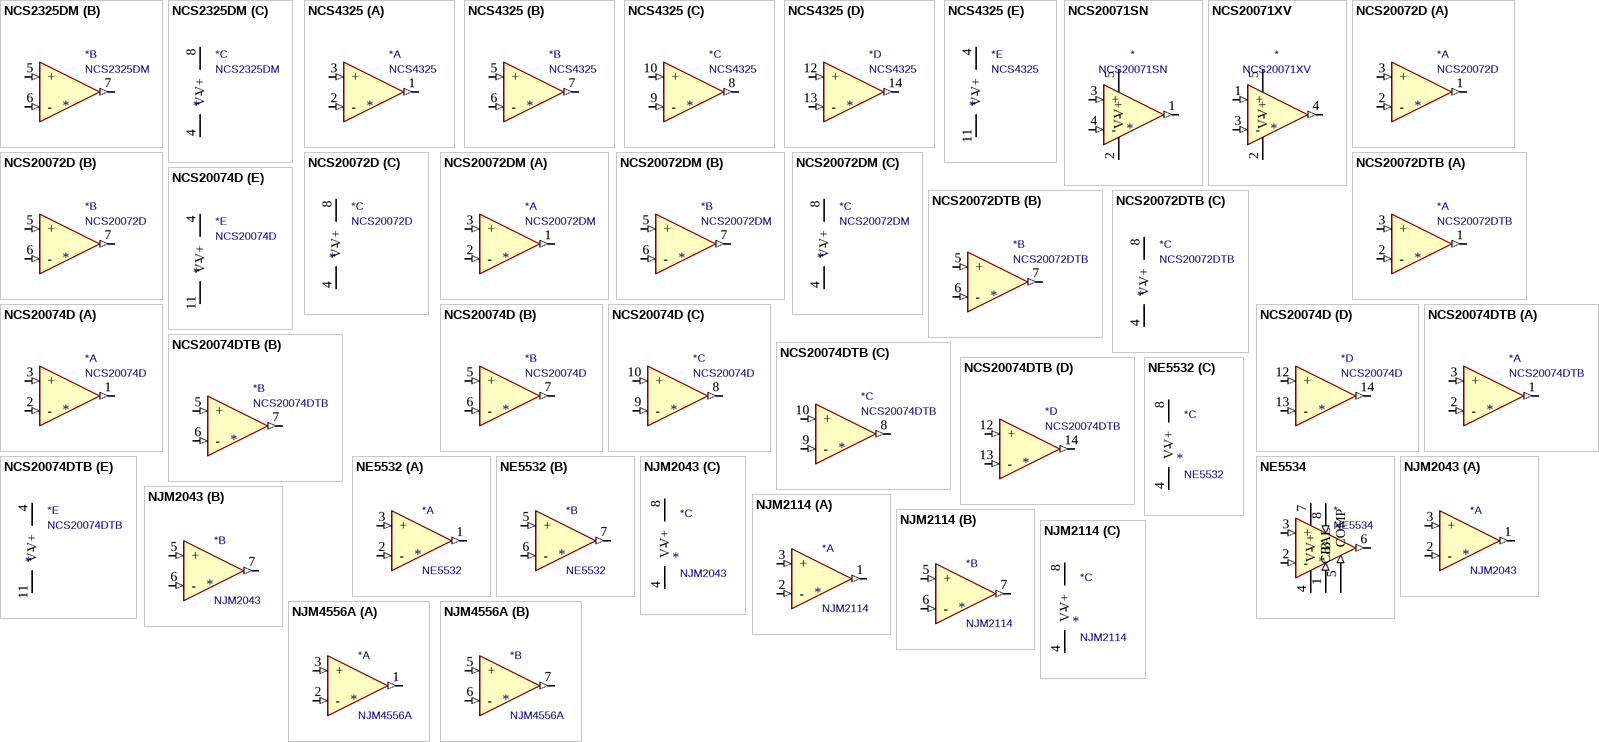
[diagram p9: symbols NCS2325DM to NJM4556A]

## NCS2325DM
designator *  value NCS2325DM
ki_keywords: dual opamp low-power; ki_description: Dual operational amplifier, 50uV Offset, 0.25uV/C, 35uA Zero-Drift, MSOP-8; ki_fp_filters: MSOP*3x3mm*P0.65mm*; Footprint: Package_SO:MSOP-8_3x3mm_P0.65mm; Supplier: http://www.onsemi.com/PowerSolutions/document/NCS325-D.PDF
footprint MSOP-8_3x3mm_P0.65mm
part A pins: 1 (out), 2 - (in), 3 + (in)
part B pins: 5 + (in), 6 - (in), 7 (out)
part C pins: 4 V- (power), 8 V+ (power)

## NCS4325
designator *  value NCS4325
ki_keywords: quad opamp low-power; ki_description: Quad operational amplifier, 50uV Offset, 0.25uV/C, 35uA Zero-Drift, SOIC-14; ki_fp_filters: SOIC*3.9x8.7mm*P1.27mm*; Footprint: Package_SO:SOIC-14_3.9x8.7mm_P1.27mm; Supplier: http://www.onsemi.com/pub/Collateral/NCS325-D.PDF
footprint SOIC-14_3.9x8.7mm_P1.27mm
part A pins: 1 (out), 2 - (in), 3 + (in)
part B pins: 5 + (in), 6 - (in), 7 (out)
part C pins: 8 (out), 9 - (in), 10 + (in)
part D pins: 12 + (in), 13 - (in), 14 (out)
part E pins: 4 V+ (power), 11 V- (power)

## NCS20071SN
designator *  value NCS20071SN
ki_keywords: OpAmp Rail-to-rail Output Single vfa; ki_description: Single, 2.8V/µs, Rail-to-Rail Output, TSOP-5; ki_fp_filters: TSOP*1.65x3.05mm*P0.95mm*; Footprint: Package_SO:TSOP-5_1.65x3.05mm_P0.95mm; Supplier: https://www.onsemi.com/pub/Collateral/NCS20071-D.PDF
footprint TSOP-5_1.65x3.05mm_P0.95mm
pins: 1 (out), 2 V- (power), 3 + (in), 4 - (in), 5 V+ (power)

## NCS20071XV
designator *  value NCS20071XV
ki_keywords: OpAmp Rail-to-rail Output Single vfa; ki_description: Single, 2.8V/µs, Rail-to-Rail Output, SOT-553; ki_fp_filters: SOT?553*; Footprint: Package_TO_SOT_SMD:SOT-553; Supplier: https://www.onsemi.com/pub/Collateral/NCS20071-D.PDF
footprint SOT-553
pins: 1 + (in), 2 V- (power), 3 - (in), 4 (out), 5 V+ (power)

## NCS20072D
designator *  value NCS20072D
ki_keywords: dual rail-to-rail output opamp vfa; ki_description: Dual, 2.8V/µs, Rail-to-Rail Output, SOIC-8; ki_fp_filters: SOIC*3.9x4.9mm*P1.27mm*; Footprint: Package_SO:SOIC-8_3.9x4.9mm_P1.27mm; Supplier: https://www.onsemi.com/pub/Collateral/NCS20071-D.PDF
footprint SOIC-8_3.9x4.9mm_P1.27mm
part A pins: 1 (out), 2 - (in), 3 + (in)
part B pins: 5 + (in), 6 - (in), 7 (out)
part C pins: 4 V- (power), 8 V+ (power)

## NCS20072DM
designator *  value NCS20072DM
ki_keywords: dual rail-to-rail output opamp vfa; ki_description: Dual, 2.8V/µs, Rail-to-Rail Output, MSOP-8; ki_fp_filters: MSOP*3x3mm*P0.65mm*; Footprint: Package_SO:MSOP-8_3x3mm_P0.65mm; Supplier: https://www.onsemi.com/pub/Collateral/NCS20071-D.PDF
footprint MSOP-8_3x3mm_P0.65mm
part A pins: 1 (out), 2 - (in), 3 + (in)
part B pins: 5 + (in), 6 - (in), 7 (out)
part C pins: 4 V- (power), 8 V+ (power)

## NCS20072DTB
designator *  value NCS20072DTB
ki_keywords: dual rail-to-rail output opamp vfa; ki_description: Dual, 2.8V/µs, Rail-to-Rail Output, TSSOP-8; ki_fp_filters: TSSOP*4.4x3mm*P0.65mm*; Footprint: Package_SO:TSSOP-8_4.4x3mm_P0.65mm; Supplier: https://www.onsemi.com/pub/Collateral/NCS20071-D.PDF
footprint TSSOP-8_4.4x3mm_P0.65mm
part A pins: 1 (out), 2 - (in), 3 + (in)
part B pins: 5 + (in), 6 - (in), 7 (out)
part C pins: 4 V- (power), 8 V+ (power)

## NCS20074D
designator *  value NCS20074D
ki_keywords: quad rail-to-rail output opamp vfa; ki_description: Quad, 2.8V/µs, Rail-to-Rail Output, SOIC-14; ki_fp_filters: SOIC*3.9x8.7mm*P1.27mm*; Footprint: Package_SO:SOIC-14_3.9x8.7mm_P1.27mm; Supplier: https://www.onsemi.com/pub/Collateral/NCS20071-D.PDF
footprint SOIC-14_3.9x8.7mm_P1.27mm
part A pins: 1 (out), 2 - (in), 3 + (in)
part B pins: 5 + (in), 6 - (in), 7 (out)
part C pins: 8 (out), 9 - (in), 10 + (in)
part D pins: 12 + (in), 13 - (in), 14 (out)
part E pins: 4 V+ (power), 11 V- (power)

## NCS20074DTB
designator *  value NCS20074DTB
ki_keywords: quad rail-to-rail output opamp vfa; ki_description: Quad, 2.8V/µs, Rail-to-Rail Output, TSSOP-14; ki_fp_filters: TSSOP*4.4x5mm*P0.65mm*; Footprint: Package_SO:TSSOP-14_4.4x5mm_P0.65mm; Supplier: https://www.onsemi.com/pub/Collateral/NCS20071-D.PDF
footprint TSSOP-14_4.4x5mm_P0.65mm
part A pins: 1 (out), 2 - (in), 3 + (in)
part B pins: 5 + (in), 6 - (in), 7 (out)
part C pins: 8 (out), 9 - (in), 10 + (in)
part D pins: 12 + (in), 13 - (in), 14 (out)
part E pins: 4 V+ (power), 11 V- (power)

## NE5532
designator *  value NE5532
ki_keywords: dual opamp; ki_description: Dual Low-Noise Operational Amplifiers, DIP-8/SOIC-8; ki_fp_filters: SOIC*3.9x4.9mm*P1.27mm* DIP*W7.62mm* TO*99* OnSemi*Micro8* TSSOP*3x3mm*P0.65mm* TSSOP*4.4x3mm*P0.65mm* MSOP*3x3mm*P0.65mm* SSOP*3.9x4.9mm*P0.635mm* LFCSP*2x2mm*P0.5mm* *SIP* SOIC*5.3x6.2mm*P1.27mm*; Supplier: http://www.ti.com/lit/ds/symlink/ne5532.pdf
part A pins: 1 (out), 2 - (in), 3 + (in)
part B pins: 5 + (in), 6 - (in), 7 (out)
part C pins: 4 V- (power), 8 V+ (power)

## NE5534
designator *  value NE5534
ki_keywords: single opamp; ki_description: Single Low-Noise Operational Amplifiers, DIP-8/SOIC-8; ki_fp_filters: DIP*W7.62mm* SOIC*3.9x4.9mm*P1.27mm* TO?5*; Supplier: http://www.ti.com/lit/ds/symlink/ne5534.pdf
pins: 1 BAL (in), 2 - (in), 3 + (in), 4 V- (power), 5 COMP (in), 6 (out), 7 V+ (power), 8 C/B (in)

## NJM2043
designator *  value NJM2043
ki_keywords: dual opamp; ki_description: Dual Low Noise Pre-Amplifier, DIP-8/DMP-8/SIP-8; ki_fp_filters: SOIC*3.9x4.9mm*P1.27mm* DIP*W7.62mm* TO*99* OnSemi*Micro8* TSSOP*3x3mm*P0.65mm* TSSOP*4.4x3mm*P0.65mm* MSOP*3x3mm*P0.65mm* SSOP*3.9x4.9mm*P0.635mm* LFCSP*2x2mm*P0.5mm* *SIP* SOIC*5.3x6.2mm*P1.27mm*; Supplier: http://www.njr.com/semicon/PDF/NJM2043_E.pdf
part A pins: 1 (out), 2 - (in), 3 + (in)
part B pins: 5 + (in), 6 - (in), 7 (out)
part C pins: 4 V- (power), 8 V+ (power)

## NJM2114
designator *  value NJM2114
ki_keywords: dual opamp; ki_description: Dual High Performance Low Noise Operational Amplifier, DIP-8/DMP-8/SIP-8; ki_fp_filters: SOIC*3.9x4.9mm*P1.27mm* DIP*W7.62mm* TO*99* OnSemi*Micro8* TSSOP*3x3mm*P0.65mm* TSSOP*4.4x3mm*P0.65mm* MSOP*3x3mm*P0.65mm* SSOP*3.9x4.9mm*P0.635mm* LFCSP*2x2mm*P0.5mm* *SIP* SOIC*5.3x6.2mm*P1.27mm*; Supplier: http://www.njr.com/semicon/PDF/NJM2114_E.pdf
part A pins: 1 (out), 2 - (in), 3 + (in)
part B pins: 5 + (in), 6 - (in), 7 (out)
part C pins: 4 V- (power), 8 V+ (power)

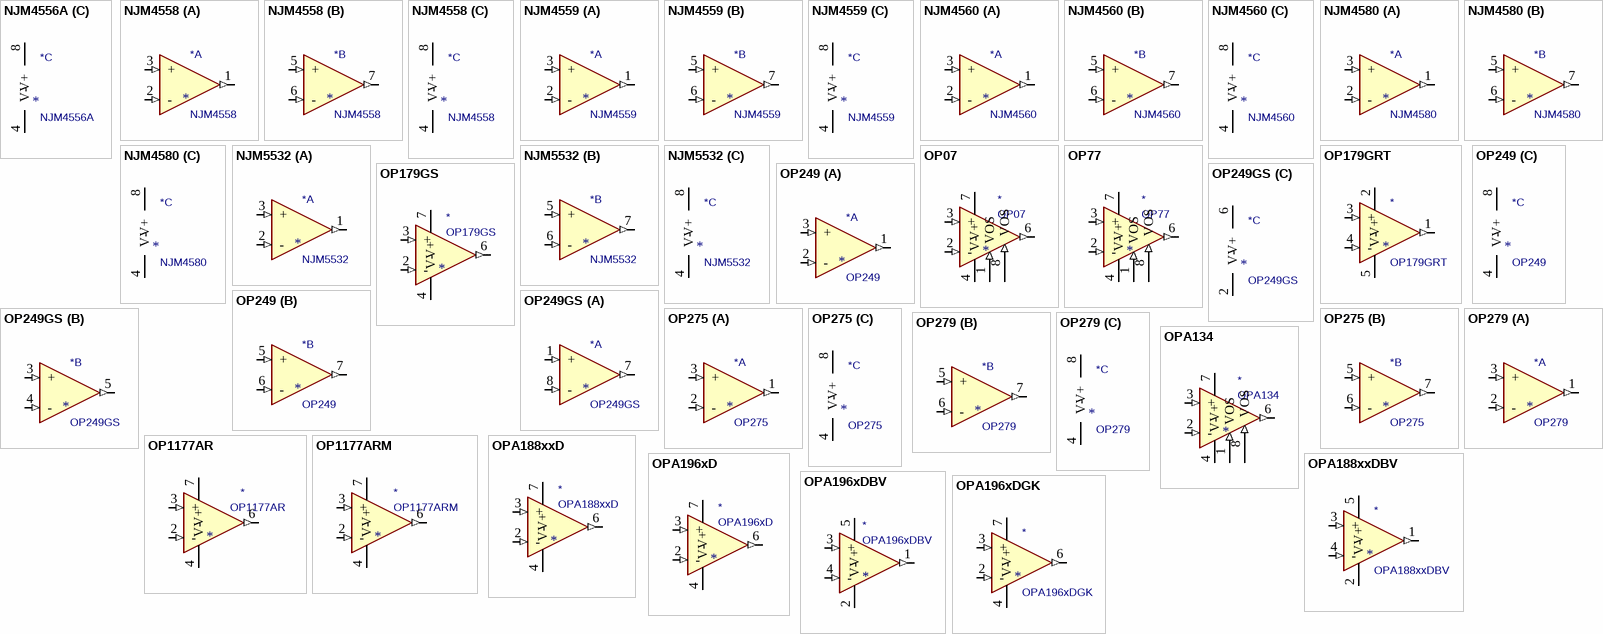
[diagram p10: symbols NJM4556A to OPA196xDGK]

## NJM4556A
designator *  value NJM4556A
ki_keywords: dual opamp; ki_description: Dual High Current Operational Amplifier, DIP-8/DMP-8/SIP-8/SSOP-8; ki_fp_filters: SOIC*3.9x4.9mm*P1.27mm* DIP*W7.62mm* TO*99* OnSemi*Micro8* TSSOP*3x3mm*P0.65mm* TSSOP*4.4x3mm*P0.65mm* MSOP*3x3mm*P0.65mm* SSOP*3.9x4.9mm*P0.635mm* LFCSP*2x2mm*P0.5mm* *SIP* SOIC*5.3x6.2mm*P1.27mm*; Supplier: http://www.njr.com/semicon/PDF/NJM4556A_E.pdf
part A pins: 1 (out), 2 - (in), 3 + (in)
part B pins: 5 + (in), 6 - (in), 7 (out)
part C pins: 4 V- (power), 8 V+ (power)

## NJM4558
designator *  value NJM4558
ki_keywords: dual opamp; ki_description: Dual Operational Amplifier, DIP-8/DMP-8/SIP-8/SOP-8/SSOP-8; ki_fp_filters: SOIC*3.9x4.9mm*P1.27mm* DIP*W7.62mm* TO*99* OnSemi*Micro8* TSSOP*3x3mm*P0.65mm* TSSOP*4.4x3mm*P0.65mm* MSOP*3x3mm*P0.65mm* SSOP*3.9x4.9mm*P0.635mm* LFCSP*2x2mm*P0.5mm* *SIP* SOIC*5.3x6.2mm*P1.27mm*; Supplier: http://www.njr.com/semicon/PDF/NJM4558_NJM4559_E.pdf
part A pins: 1 (out), 2 - (in), 3 + (in)
part B pins: 5 + (in), 6 - (in), 7 (out)
part C pins: 4 V- (power), 8 V+ (power)

## NJM4559
designator *  value NJM4559
ki_keywords: dual opamp; ki_description: Dual Operational Amplifier, DIP-8/DMP-8/SIP-8/SOP-8/SSOP-8; ki_fp_filters: SOIC*3.9x4.9mm*P1.27mm* DIP*W7.62mm* TO*99* OnSemi*Micro8* TSSOP*3x3mm*P0.65mm* TSSOP*4.4x3mm*P0.65mm* MSOP*3x3mm*P0.65mm* SSOP*3.9x4.9mm*P0.635mm* LFCSP*2x2mm*P0.5mm* *SIP* SOIC*5.3x6.2mm*P1.27mm*; Supplier: http://www.njr.com/semicon/PDF/NJM4558_NJM4559_E.pdf
part A pins: 1 (out), 2 - (in), 3 + (in)
part B pins: 5 + (in), 6 - (in), 7 (out)
part C pins: 4 V- (power), 8 V+ (power)

## NJM4560
designator *  value NJM4560
ki_keywords: dual opamp; ki_description: Dual Operational Amplifier, DIP-8/DMP-8/SIP-8/SOP-8; ki_fp_filters: SOIC*3.9x4.9mm*P1.27mm* DIP*W7.62mm* TO*99* OnSemi*Micro8* TSSOP*3x3mm*P0.65mm* TSSOP*4.4x3mm*P0.65mm* MSOP*3x3mm*P0.65mm* SSOP*3.9x4.9mm*P0.635mm* LFCSP*2x2mm*P0.5mm* *SIP* SOIC*5.3x6.2mm*P1.27mm*; Supplier: http://www.njr.com/semicon/PDF/NJM4560_E.pdf
part A pins: 1 (out), 2 - (in), 3 + (in)
part B pins: 5 + (in), 6 - (in), 7 (out)
part C pins: 4 V- (power), 8 V+ (power)

## NJM4580
designator *  value NJM4580
ki_keywords: dual opamp; ki_description: Dual Operational Amplifier, DIP-8/DMP-8/SIP-8/MSOP-8/SOP-8/SSOP-8; ki_fp_filters: SOIC*3.9x4.9mm*P1.27mm* DIP*W7.62mm* TO*99* OnSemi*Micro8* TSSOP*3x3mm*P0.65mm* TSSOP*4.4x3mm*P0.65mm* MSOP*3x3mm*P0.65mm* SSOP*3.9x4.9mm*P0.635mm* LFCSP*2x2mm*P0.5mm* *SIP* SOIC*5.3x6.2mm*P1.27mm*; Supplier: http://www.njr.com/semicon/PDF/NJM4580_E.pdf
part A pins: 1 (out), 2 - (in), 3 + (in)
part B pins: 5 + (in), 6 - (in), 7 (out)
part C pins: 4 V- (power), 8 V+ (power)

## NJM5532
designator *  value NJM5532
ki_keywords: dual opamp; ki_description: Dual Low-Noise Operational Amplifier, DIP-8/DMP-8/SIP-8; ki_fp_filters: SOIC*3.9x4.9mm*P1.27mm* DIP*W7.62mm* TO*99* OnSemi*Micro8* TSSOP*3x3mm*P0.65mm* TSSOP*4.4x3mm*P0.65mm* MSOP*3x3mm*P0.65mm* SSOP*3.9x4.9mm*P0.635mm* LFCSP*2x2mm*P0.5mm* *SIP* SOIC*5.3x6.2mm*P1.27mm*; Supplier: http://www.njr.com/semicon/PDF/NJM5532_E.pdf
part A pins: 1 (out), 2 - (in), 3 + (in)
part B pins: 5 + (in), 6 - (in), 7 (out)
part C pins: 4 V- (power), 8 V+ (power)

## OP07
designator *  value OP07
ki_keywords: single opamp; ki_description: Single Ultra-Low Offset Voltage Operational Amplifier, DIP-8/SOIC-8; ki_fp_filters: DIP*W7.62mm* SOIC*3.9x4.9mm*P1.27mm* TO*99*; Supplier: https://www.analog.com/media/en/technical-documentation/data-sheets/OP07.pdf
pins: 1 VOS (in), 2 - (in), 3 + (in), 4 V- (power), 5 NC (in) hidden, 6 (out), 7 V+ (power), 8 VOS (in)

## OP77
designator *  value OP77
ki_keywords: single opamp; ki_description: Next Generation OP07 Ultralow Offset Voltage Operational Amplifier, DIP-8/TO-99-8; ki_fp_filters: DIP*W7.62mm* SOIC*3.9x4.9mm*P1.27mm* TO*99*; Supplier: https://www.analog.com/media/en/technical-documentation/data-sheets/OP77.pdf
pins: 1 VOS (in), 2 - (in), 3 + (in), 4 V- (power), 5 NC (in) hidden, 6 (out), 7 V+ (power), 8 VOS (in)

## OP179GRT
designator *  value OP179GRT
ki_keywords: single opamp; ki_description: Single Rail-to-Rail High Output Current Operational Amplifiers, SOT-23-5; ki_fp_filters: SOT?23*; Footprint: Package_TO_SOT_SMD:SOT-23-5; Supplier: https://www.analog.com/media/en/technical-documentation/data-sheets/OP179_279.pdf
footprint SOT-23-5
pins: 1 (out), 2 V+ (power), 3 + (in), 4 - (in), 5 V- (power)

## OP179GS
designator *  value OP179GS
ki_keywords: single opamp; ki_description: Single Rail-to-Rail High Output Current Operational Amplifiers, SOIC-8; ki_fp_filters: SOIC*3.9x4.9mm*P1.27mm*; Footprint: Package_SO:SOIC-8_3.9x4.9mm_P1.27mm; Supplier: https://www.analog.com/media/en/technical-documentation/data-sheets/OP179_279.pdf
footprint SOIC-8_3.9x4.9mm_P1.27mm
pins: 1 NC (in) hidden, 2 - (in), 3 + (in), 4 V- (power), 5 NC (in) hidden, 6 (out), 7 V+ (power), 8 NC (in) hidden

## OP249
designator *  value OP249
ki_keywords: dual opamp; ki_description: Precision JFET, High Speed, Dual Operational Amplifier, DIP-8; ki_fp_filters: SOIC*3.9x4.9mm*P1.27mm* DIP*W7.62mm* TO*99* OnSemi*Micro8* TSSOP*3x3mm*P0.65mm* TSSOP*4.4x3mm*P0.65mm* MSOP*3x3mm*P0.65mm* SSOP*3.9x4.9mm*P0.635mm* LFCSP*2x2mm*P0.5mm* *SIP* SOIC*5.3x6.2mm*P1.27mm*; Supplier: https://www.analog.com/media/en/technical-documentation/data-sheets/OP249.pdf
part A pins: 1 (out), 2 - (in), 3 + (in)
part B pins: 5 + (in), 6 - (in), 7 (out)
part C pins: 4 V- (power), 8 V+ (power)

## OP249GS
designator *  value OP249GS
ki_keywords: dual opamp; ki_description: Precision JFET, High Speed, Dual Operational Amplifier, SOIC-8; ki_fp_filters: SOIC*3.9x4.9mm*P1.27mm*; Footprint: Package_SO:SOIC-8_3.9x4.9mm_P1.27mm; Supplier: https://www.analog.com/media/en/technical-documentation/data-sheets/OP249.pdf
footprint SOIC-8_3.9x4.9mm_P1.27mm
part A pins: 1 + (in), 7 (out), 8 - (in)
part B pins: 3 + (in), 4 - (in), 5 (out)
part C pins: 2 V- (power), 6 V+ (power)

## OP275
designator *  value OP275
ki_keywords: dual opamp; ki_description: Dual Bipolar/JFET, Audio Operational Amplifier, DIP-8/SOIC-8; ki_fp_filters: SOIC*3.9x4.9mm*P1.27mm* DIP*W7.62mm* TO*99* OnSemi*Micro8* TSSOP*3x3mm*P0.65mm* TSSOP*4.4x3mm*P0.65mm* MSOP*3x3mm*P0.65mm* SSOP*3.9x4.9mm*P0.635mm* LFCSP*2x2mm*P0.5mm* *SIP* SOIC*5.3x6.2mm*P1.27mm*; Supplier: https://www.analog.com/media/en/technical-documentation/data-sheets/OP275.pdf
part A pins: 1 (out), 2 - (in), 3 + (in)
part B pins: 5 + (in), 6 - (in), 7 (out)
part C pins: 4 V- (power), 8 V+ (power)

## OP279
designator *  value OP279
ki_keywords: dual opamp; ki_description: Dual Rail-to-Rail High Output Current Operational Amplifiers, SOIC-8/TSSOP-8; ki_fp_filters: SOIC*3.9x4.9mm*P1.27mm* TSSOP*4.4x3mm*P0.65mm*; Supplier: https://www.analog.com/media/en/technical-documentation/data-sheets/OP179_279.pdf
part A pins: 1 (out), 2 - (in), 3 + (in)
part B pins: 5 + (in), 6 - (in), 7 (out)
part C pins: 4 V- (power), 8 V+ (power)

## OP1177AR
designator *  value OP1177AR
ki_keywords: single operational amplifier; ki_description: Precision Low Noise, Low Input Bias Current Operational Amplifier, SOIC-8; ki_fp_filters: SOIC*3.9x4.9mm*P1.27mm*; Footprint: Package_SO:SOIC-8_3.9x4.9mm_P1.27mm; Supplier: https://www.analog.com/media/en/technical-documentation/data-sheets/OP1177_2177_4177.pdf
footprint SOIC-8_3.9x4.9mm_P1.27mm
pins: 1 NC (in) hidden, 2 - (in), 3 + (in), 4 V- (power), 5 NC (in) hidden, 6 (out), 7 V+ (power), 8 NC (in) hidden

## OP1177ARM
designator *  value OP1177ARM
ki_keywords: single operational amplifier; ki_description: Precision Low Noise, Low Input Bias Current Operational Amplifier, MSOP-8; ki_fp_filters: MSOP*3x3mm*P0.65mm*; Footprint: Package_SO:MSOP-8_3x3mm_P0.65mm; Supplier: https://www.analog.com/media/en/technical-documentation/data-sheets/OP1177_2177_4177.pdf
footprint MSOP-8_3x3mm_P0.65mm
pins: 1 NC (in) hidden, 2 - (in), 3 + (in), 4 V- (power), 5 NC (in) hidden, 6 (out), 7 V+ (power), 8 NC (in) hidden

## OPA134
designator *  value OPA134
ki_keywords: single opamp; ki_description: Single SoundPlus High Performance Audio Operational Amplifiers, DIP-8/SOIC-8; ki_fp_filters: DIP*W7.62mm* SOIC*3.9x4.9mm*P1.27mm* TO*99*; Supplier: http://www.ti.com/lit/ds/symlink/opa134.pdf
pins: 1 VOS (in), 2 - (in), 3 + (in), 4 V- (power), 5 NC (in) hidden, 6 (out), 7 V+ (power), 8 VOS (in)

## OPA188xxD
designator *  value OPA188xxD
ki_keywords: single opamp zero-drift; ki_description: Precision, Low-Noise, Rail-to-Rail Output, 36-V, Zero-Drift Operational Amplifier, SOIC-8; ki_fp_filters: SOIC*3.9x4.9mm*P1.27mm*; Footprint: Package_SO:SOIC-8_3.9x4.9mm_P1.27mm; Supplier: http://www.ti.com/lit/ds/symlink/opa188.pdf
footprint SOIC-8_3.9x4.9mm_P1.27mm
pins: 1 NC (in) hidden, 2 - (in), 3 + (in), 4 V- (power), 5 NC (in) hidden, 6 (out), 7 V+ (power), 8 NC (in) hidden

## OPA188xxDBV
designator *  value OPA188xxDBV
ki_keywords: single opamp zero-drift; ki_description: Zero-Drift, Precision, Low-Noise, Rail-to-Rail Output, 36-V Operational Amplifier, TSOT-23-5; ki_fp_filters: TSOT*23*; Footprint: Package_TO_SOT_SMD:TSOT-23-5; Supplier: http://www.ti.com/lit/ds/symlink/opa188.pdf
footprint TSOT-23-5
pins: 1 (out), 2 V- (power), 3 + (in), 4 - (in), 5 V+ (power)

## OPA196xD
designator *  value OPA196xD
ki_keywords: single opamp; ki_description: Sing, Low-Power, Low Offset Voltage, Rail-to-Rail Operational Amplifier, SOIC-8; ki_fp_filters: SOIC*3.9x4.9mm*P1.27mm*; Footprint: Package_SO:SOIC-8_3.9x4.9mm_P1.27mm; Supplier: http://www.ti.com/lit/ds/symlink/opa4196.pdf
footprint SOIC-8_3.9x4.9mm_P1.27mm
pins: 1 NC (in) hidden, 2 - (in), 3 + (in), 4 V- (power), 5 NC (in) hidden, 6 (out), 7 V+ (power), 8 NC (in) hidden

## OPA196xDBV
designator *  value OPA196xDBV
ki_keywords: single opamp; ki_description: Single, Low-Power, Low Offset Voltage, Rail-to-Rail Operational Amplifier, SOT-23-5; ki_fp_filters: SOT?23*; Footprint: Package_TO_SOT_SMD:SOT-23-5; Supplier: http://www.ti.com/lit/ds/symlink/opa4196.pdf
footprint SOT-23-5
pins: 1 (out), 2 V- (power), 3 + (in), 4 - (in), 5 V+ (power)

## OPA196xDGK
designator *  value OPA196xDGK
ki_keywords: single opamp rtor; ki_description: Single, Low-Power, Low Offset Voltage, Rail-to-Rail Operational Amplifier, VSSOP-8; ki_fp_filters: VSSOP*3.0x3.0mm*P0.65mm*; Footprint: Package_SO:VSSOP-8_3.0x3.0mm_P0.65mm; Supplier: http://www.ti.com/lit/ds/symlink/opa4196.pdf
footprint VSSOP-8_3.0x3.0mm_P0.65mm
pins: 1 NC (in) hidden, 2 - (in), 3 + (in), 4 V- (power), 5 NC (in) hidden, 6 (out), 7 V+ (power), 8 NC (in) hidden

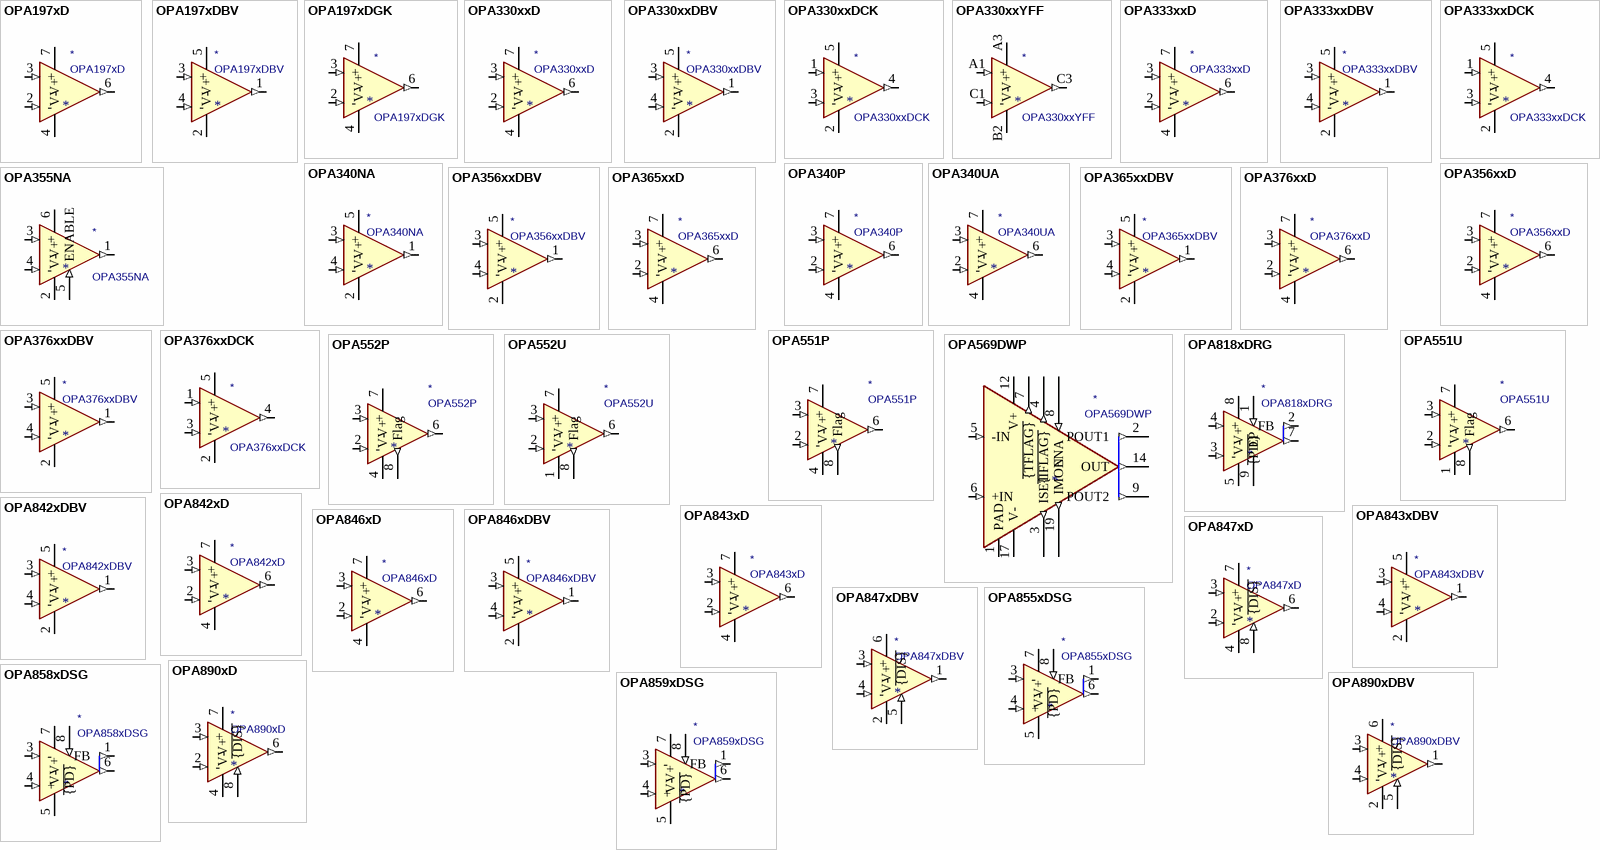
[diagram p11: symbols OPA197xD to OPA890xDBV]

## OPA197xD
designator *  value OPA197xD
ki_keywords: single opamp rtor; ki_description: Single 36V, Precision, Rail-to-Rail Input/Output, Low Offset Voltage, Operational Amplifier, SOIC-8; ki_fp_filters: SOIC*3.9x4.9mm*P1.27mm*; Footprint: Package_SO:SOIC-8_3.9x4.9mm_P1.27mm; Supplier: http://www.ti.com/lit/ds/symlink/opa197.pdf
footprint SOIC-8_3.9x4.9mm_P1.27mm
pins: 1 NC (in) hidden, 2 - (in), 3 + (in), 4 V- (power), 5 NC (in) hidden, 6 (out), 7 V+ (power), 8 NC (in) hidden

## OPA197xDBV
designator *  value OPA197xDBV
ki_keywords: single opamp rtor; ki_description: Single 36V, Precision, Rail-to-Rail Input/Output, Low Offset Voltage, Operational Amplifier, SOT-23; ki_fp_filters: SOT?23*; Footprint: Package_TO_SOT_SMD:SOT-23-5; Supplier: http://www.ti.com/lit/ds/symlink/opa197.pdf
footprint SOT-23-5
pins: 1 (out), 2 V- (power), 3 + (in), 4 - (in), 5 V+ (power)

## OPA197xDGK
designator *  value OPA197xDGK
ki_keywords: single opamp rtor; ki_description: Single 36V, Precision, Rail-to-Rail Input/Output, Low Offset Voltage, Operational Amplifier, VSSOP-8; ki_fp_filters: VSSOP*3.0x3.0mm*P0.65mm*; Footprint: Package_SO:VSSOP-8_3.0x3.0mm_P0.65mm; Supplier: http://www.ti.com/lit/ds/symlink/opa197.pdf
footprint VSSOP-8_3.0x3.0mm_P0.65mm
pins: 1 NC (in) hidden, 2 - (in), 3 + (in), 4 V- (power), 5 NC (in) hidden, 6 (out), 7 V+ (power), 8 NC (in) hidden

## OPA330xxD
designator *  value OPA330xxD
ki_keywords: single opamp; ki_description: 50μV V OS, 0.25μV/°C, 35μA CMOS OPERATIONAL AMPLIFIERS, Zerø-Drift Series, SOIC; ki_fp_filters: SOIC*3.9x4.9mm*P1.27mm*; Footprint: Package_SO:SOIC-8_3.9x4.9mm_P1.27mm; Supplier: http://www.ti.com/lit/ds/symlink/opa330.pdf
footprint SOIC-8_3.9x4.9mm_P1.27mm
pins: 1 NC (in) hidden, 2 - (in), 3 + (in), 4 V- (power), 5 NC (in) hidden, 6 (out), 7 V+ (power), 8 NC (in) hidden

## OPA330xxDBV
designator *  value OPA330xxDBV
ki_keywords: single opamp; ki_description: 50μV V OS, 0.25μV/°C, 35μA CMOS OPERATIONAL AMPLIFIERS, Zerø-Drift Series, SOT; ki_fp_filters: SOT?23*; Footprint: Package_TO_SOT_SMD:SOT-23-5; Supplier: http://www.ti.com/lit/ds/symlink/opa330.pdf
footprint SOT-23-5
pins: 1 (out), 2 V- (power), 3 + (in), 4 - (in), 5 V+ (power)

## OPA330xxDCK
designator *  value OPA330xxDCK
ki_keywords: single opamp; ki_description: 50μV V OS, 0.25μV/°C, 35μA CMOS OPERATIONAL AMPLIFIERS, Zerø-Drift Series, SC70; ki_fp_filters: SOT?23* *SC*70*; Supplier: http://www.ti.com/lit/ds/symlink/opa330.pdf
pins: 1 + (in), 2 V- (power), 3 - (in), 4 (out), 5 V+ (power)

## OPA330xxYFF
designator *  value OPA330xxYFF
ki_keywords: single opamp; ki_description: 50μV V OS, 0.25μV/°C, 35μA CMOS OPERATIONAL AMPLIFIERS, Zerø-Drift Series, DSBGA; ki_fp_filters: Texas*DSBGA*0.822x1.116mm*2x1x2*P0.4mm*; Footprint: Package_BGA:Texas_DSBGA-5_0.822x1.116mm_Layout2x1x2_P0.4mm; Supplier: http://www.ti.com/lit/ds/symlink/opa330.pdf
footprint Texas_DSBGA-5_0.822x1.116mm_Layout2x1x2_P0.4mm
pins: A1 + (in), A3 V+ (power), B2 V- (power), C1 - (in), C3 (out)